# EAGLE library part L6205N (library ST Microelctronics_By_element14_Batch_1)
DMOS DUAL FULL BRIDGE DRIVER
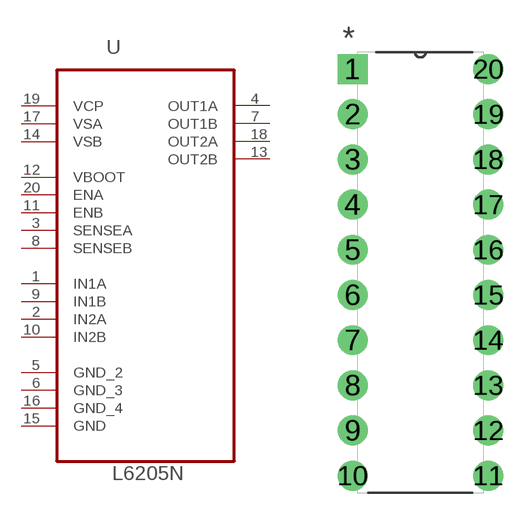
[diagram p45: symbol with the pads of DIP254P762X510-20; footprint DIP254P762X510-20]

Designator prefix U

## L6205N (MPN: L6205N; OC_FARNELL: 1564367; OC_NEWARK: 89K0754; PACKAGE: PDIP-20; SUPPLIER: STMICROELECTRONICS)  [DIP254P762X510-20]
1  IN1A  in
2  IN2A  in
3  SENSEA  in
4  OUT1A  out
5  GND_2  pas
6  GND_3  pas
7  OUT1B  out
8  SENSEB  in
9  IN1B  in
10  IN2B  in
11  ENB  in
12  VBOOT  pas
13  OUT2B  out
14  VSB  in
15  GND  pas
16  GND_4  pas
17  VSA  in
18  OUT2A  out
19  VCP  in
20  ENA  in

## Footprint DIP254P762X510-20 (pad centres in mm)
drill 1.118 square: 1 -7.62,22.86
drill 1.118: 2 -7.62,20.32; 3 -7.62,17.78; 4 -7.62,15.24; 5 -7.62,12.7; 6 -7.62,10.16; 7 -7.62,7.62; 8 -7.62,5.08; 9 -7.62,2.54; 10 -7.62,0; 11 0,0; 12 0,2.54; 13 0,5.08; 14 0,7.62; 15 0,10.16; 16 0,12.7; 17 0,15.24; 18 0,17.78; 19 0,20.32; 20 0,22.86